# Altium schematic symbol library TLP268J.SchLib: 1 symbol
Pins are listed as number, name and electrical type; pins without a type are passive.

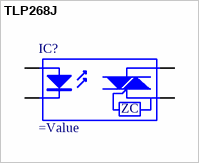
[diagram p0: symbol TLP268J]

## TLP268J
designator IC?
=Description
pins: 1 A "Anode", 3 K "Cathode", 4 Main term "Emitter", 6 Main tern "Collector"
text: ZC